# EAGLE library part IC_LTC3441 (library 0kaz)
High Current Micropower Synchronous Buck-Boost DC/DC Converter (2.4V to 5.5V In, 2.4V to 5.25V Out, 1.2A, 1.7MHz max)
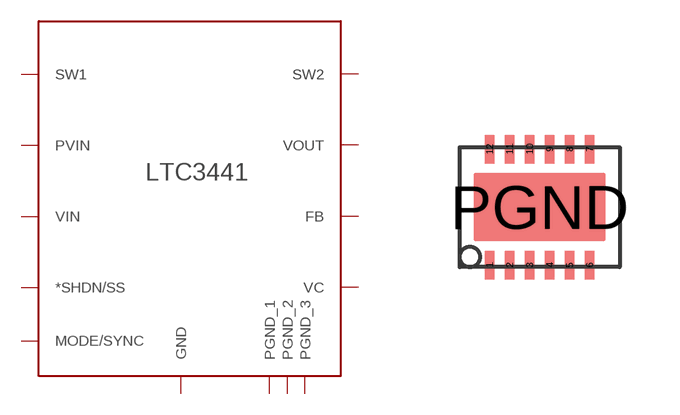
[diagram p2: symbol with the pads of DFN-12; footprint DFN-12]

Designator prefix -

## IC_LTC34411  [DFN-12]
1  *SHDN/SS
2  GND
3  PGND_1
4  SW1
5  SW2
6  PGND_2
7  MODE/SYNC
8  VOUT
9  PVIN
10  VIN
11  VC
12  FB
PGND  PGND_3

## Footprint DFN-12 (pad centres in mm)
smd 0.25 x 0.7: 1 -1.25,-1.45; 2 -0.75,-1.45; 3 -0.25,-1.45; 4 0.25,-1.45; 5 0.75,-1.45; 6 1.25,-1.45; 7 1.25,1.45; 8 0.75,1.45; 9 0.25,1.45; 10 -0.25,1.45; 11 -0.75,1.45; 12 -1.25,1.45
smd 3.3 x 1.7: PGND 0,0